# Altium footprint library AltiumDesigner.PcbLib: 1 footprints
Each footprint in its own frame and in the unit in brackets; x right, y up, seen from the top. Pads: shape width x height; smd on the part's side, far side on the other; paste and mask are expansions set on the pad; w line width, h text height; cw(c..) or ccw(c..) is an arc to the next point about the centre after c.
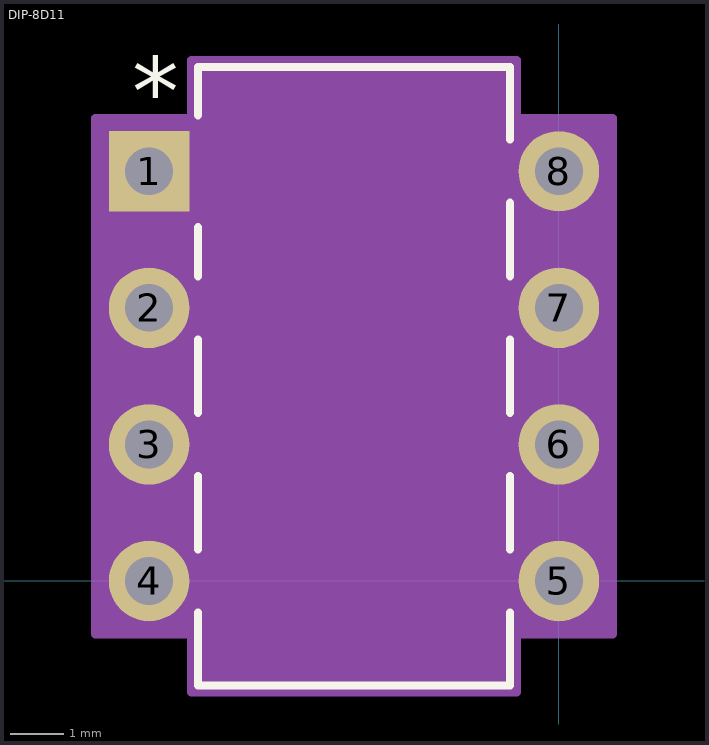
[diagram p0: the footprint, top view; thin cyan lines are the x and y axes]

## DIP-8D11 [mil]
pads (8):
  rect 59x59 / inner round 60 / far side rect 59x59 hole 35 paste+0 mask+0: 1(-300,300)
  round 59 / inner round 60 / far side round 59 hole 35 paste+0 mask+0: 2(-300,200) 3(-300,100) 4(-300,0) 5(0,0) 6(0,100) 7(0,200) 8(0,300)
Top Overlay:
  lines w6: -264.22,-23.12 -264.22,-76.42 -35.78,-76.42 -35.78,-23.12 ; -264.22,23.12 -264.22,76.88 ; -264.22,123.12 -264.22,176.88 ; -264.22,223.12 -264.22,259 ; -264.22,341 -264.22,376.42 -35.78,376.42 -35.78,323.12 ; -35.78,23.12 -35.78,76.88 ; -35.78,123.12 -35.78,176.88 ; -35.78,223.12 -35.78,276.88
  text "*" at -312.5,334.5 h50
Mechanical 13:
  lines w0: -162,371.42 ccw(c-150,371.42) -138,371.42
  lines w1: -317.5,-17.5 -317.5,17.5 -259.22,17.5 -259.22,-17.5 -317.5,-17.5 ; -317.5,82.5 -317.5,117.5 -259.22,117.5 -259.22,82.5 -317.5,82.5 ; -317.5,182.5 -317.5,217.5 -259.22,217.5 -259.22,182.5 -317.5,182.5 ; -317.5,282.5 -317.5,317.5 -259.22,317.5 -259.22,282.5 -317.5,282.5 ; -259.22,-71.42 -40.78,-71.42 -40.78,371.42 -259.22,371.42 -259.22,-71.42 ; -40.78,-17.5 -40.78,17.5 17.5,17.5 17.5,-17.5 -40.78,-17.5 ; -40.78,82.5 -40.78,117.5 17.5,117.5 17.5,82.5 -40.78,82.5 ; -40.78,182.5 -40.78,217.5 17.5,217.5 17.5,182.5 -40.78,182.5 ; -40.78,282.5 -40.78,317.5 17.5,317.5 17.5,282.5 -40.78,282.5
  text "*" at -261.72,275 h50
Mechanical 15:
  region: -30.78,-39 39.5,-39 39.5,339 -30.78,339 -30.78,381.42 -269.22,381.42 -269.22,339 -339.5,339 -339.5,-39 -269.22,-39 -269.22,-81.42 -30.78,-81.42
  lines w6: -339.5,-39 -339.5,339 -269.22,339 -269.22,381.42 -30.78,381.42 -30.78,339 39.5,339 39.5,-39 -30.78,-39 -30.78,-81.42 -269.22,-81.42 -269.22,-39 -339.5,-39
3D body: height 10, standoff 0, extent 0,0 10,10